# EAGLE library part BME680 (library LinnesLab-Sensors)
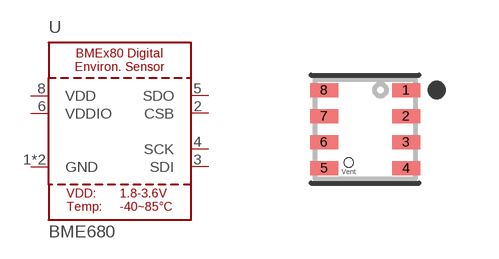
[diagram p15: symbol with the pads of BME680; footprint BME680]

Designator prefix U

## BME680  [BME680]
1  GND  pwr
2  CSB  in
3  SDI  in
4  SCK  in
5  SDO  out
6  VDDIO  pwr
7  GND  pwr
8  VDD  pwr

## Footprint BME680 (pad centres in mm)
Source: http://ae-bst.resource.bosch.com/media/products/dokumente/bme280/BST-BME280_DS001-09.pdf
smd 0.7 x 0.35: 1 1.025,0.975; 2 1.025,0.325; 3 1.025,-0.325; 4 1.025,-0.975; 5 -1.025,-0.975; 6 -1.025,-0.325; 7 -1.025,0.325; 8 -1.025,0.975